# Altium schematic symbol library LBA716S.SchLib: 1 symbol
Pins are listed as number, name and electrical type; pins without a type are passive.

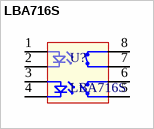
[diagram p0: symbol LBA716S]

## LBA716S
designator U?
pins: 1, 2, 3, 4, 5, 6, 7, 8